# EAGLE library part LTC2631 (library LTC-DAC)
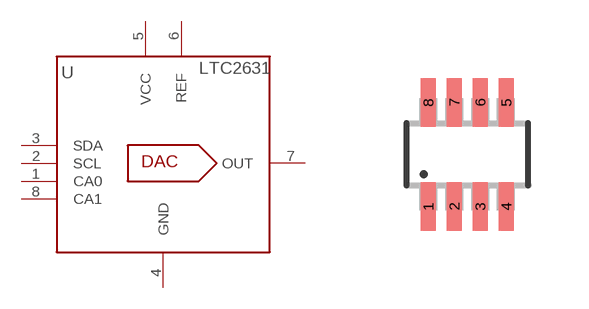
[diagram p0: symbol with the pads of TS8; footprint TS8]

Designator prefix -

## LTC2631  [TS8]
1  CA0
2  SCL
3  SDA
4  GND  pwr
5  VCC  pwr
6  REF  pas
7  OUT  out
8  CA1

## Footprint TS8 (pad centres in mm)
smd 0.381 x 1.22: 1 -0.65,-1.3; 2 0,-1.3; 3 0.65,-1.3; 4 1.3,-1.3; 5 1.3,1.3; 6 0.65,1.3; 7 0,1.3; 8 -0.65,1.3